# Altium footprint library PcbLib1.PcbLib: 3 footprints
Each footprint in its own frame and in the unit in brackets; x right, y up, seen from the top. Pads: shape width x height; smd on the part's side, far side on the other; paste and mask are expansions set on the pad; w line width, h text height; cw(c..) or ccw(c..) is an arc to the next point about the centre after c.
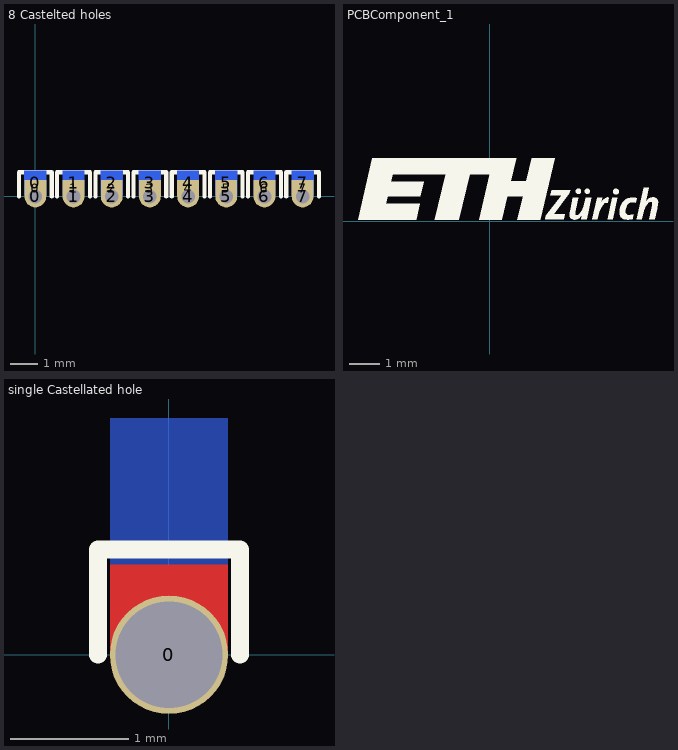
[diagram p0: the footprints below, top view; thin cyan lines are the x and y axes]

## 8 Castelted holes [mm]
pads (24):
  round 0.8 hole 0.5: 0(0,0) 1(1.4,0) 2(2.8,0) 3(4.2,0) 4(5.6,0) 5(7,0) 6(8.4,0) 7(9.8,0)
  rect 0.8x0.6 smd: 0(0,0.3) 1(1.4,0.3) 2(2.8,0.3) 3(4.2,0.3) 4(5.6,0.3) 5(7,0.3) 6(8.4,0.3) 7(9.8,0.3)
  rect 0.8x0.9 smd far side: 0(0,0.5) 1(1.4,0.5) 2(2.8,0.5) 3(4.2,0.5) 4(5.6,0.5) 5(7,0.5) 6(8.4,0.5) 7(9.8,0.5)
Top Overlay:
  lines w0.15: -0.6,0 -0.6,0.889 0.6,0.889 0.6,0 ; 0.8,0 0.8,0.889 2,0.889 2,0 ; 2.2,0 2.2,0.889 3.4,0.889 3.4,0 ; 3.6,0 3.6,0.889 4.8,0.889 4.8,0 ; 5,0 5,0.889 6.2,0.889 6.2,0 ; 6.4,0 6.4,0.889 7.6,0.889 7.6,0 ; 7.8,0 7.8,0.889 9,0.889 9,0 ; 9.2,0 9.2,0.889 10.4,0.889 10.4,0

## PCBComponent_1 [mm]
Top Overlay:
  drawing of 19 lines, arcs and shapes, not listed

## single Castellated hole [mm]
pads (1):
  round 1 hole 0.9: 0(0,0)
Top Layer:
  rectangle: -0.5,0 0.5,0.762
Bottom Layer:
  rectangle: -0.5,0 0.5,2
Top Overlay:
  lines w0.15: -0.6,0 -0.6,0.889 0.6,0.889 0.6,0
Bottom Overlay:
  lines w0.15: -0.6,0.035 -0.6,2.032 0.6,2.032 0.6,0.035